# Altium footprint library Length Bar Comparator.PcbLib: 35 footprints (part 2 of 3)
Each footprint in its own frame and in the unit in brackets; x right, y up, seen from the top. Pads: shape width x height; smd on the part's side, far side on the other; paste and mask are expansions set on the pad; w line width, h text height; cw(c..) or ccw(c..) is an arc to the next point about the centre after c.
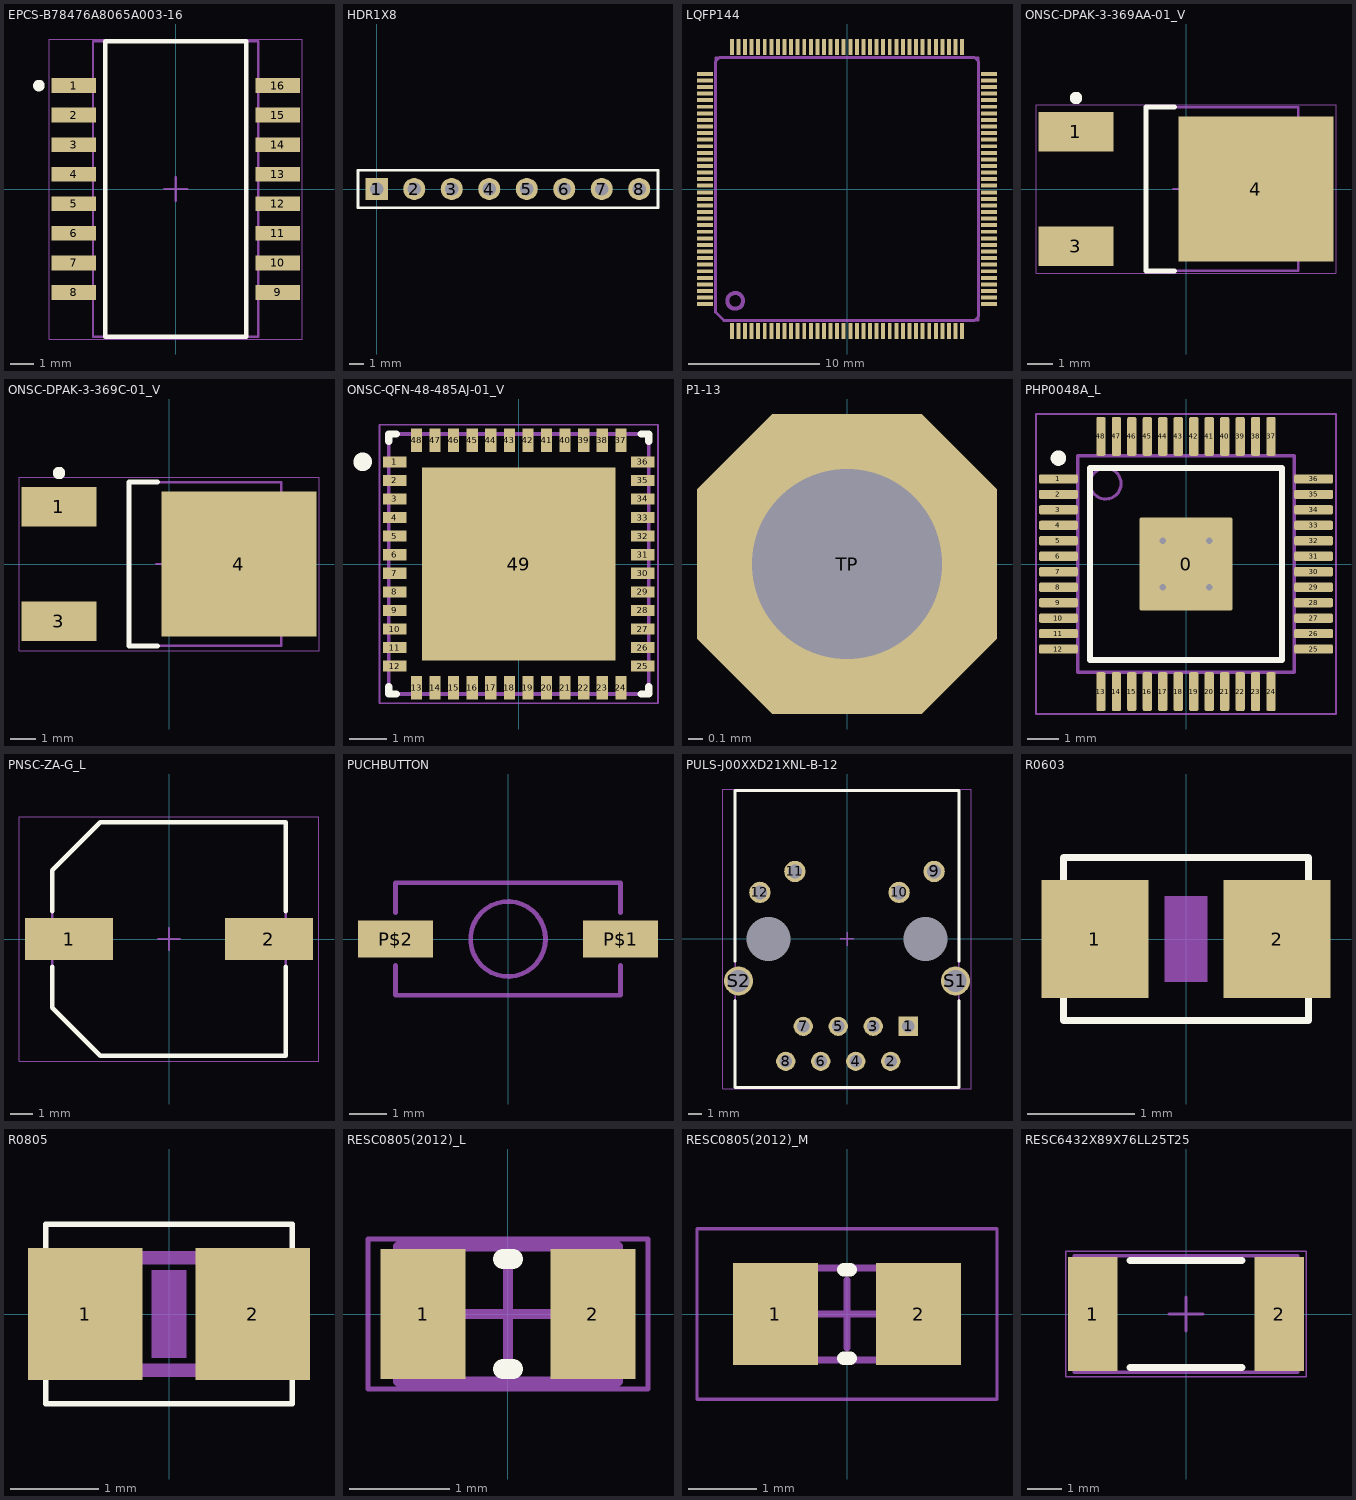
[diagram p1: the footprints below, top view; thin cyan lines are the x and y axes]

## EPCS-B78476A8065A003-16 [mm] "SMD, 16-Leads, Body 12.7x7.11mm, Pitch 1.27mm"
height 5.85
pads (16):
  rect 1.905x0.64 smd: 1(-4.383,4.445) 2(-4.383,3.175) 3(-4.383,1.905) 4(-4.383,0.635) 5(-4.383,-0.635) 6(-4.383,-1.905) 7(-4.383,-3.175) 8(-4.383,-4.445) 9(4.383,-4.445) 10(4.383,-3.175) 11(4.383,-1.905) 12(4.383,-0.635) 13(4.383,0.635) 14(4.383,1.905) 15(4.383,3.175) 16(4.383,4.445)
Top Overlay:
  circle w0.25: c-5.885,4.445 r0.125
  lines w0.2: -3.03,-6.35 3.03,-6.35 3.03,6.35 -3.03,6.35 -3.03,-6.35
Mechanical 13:
  lines w0.1: -3.555,-6.35 -3.555,6.35 3.555,6.35 3.555,-6.35 -3.555,-6.35
Mechanical 15:
  lines w0.05: -5.435,-6.45 5.435,-6.45 5.435,6.45 -5.435,6.45 -5.435,-6.45
  lines w0.1: -0.5,0 0.5,0 ; 0,-0.5 0,0.5
3D body: height 5.85, standoff 0.2, extent -3.555,-6.35 3.555,6.35

## HDR1X8 [mm] "Connector; Header; 8 Position"
pads (8):
  rect 1.5x1.5 hole 0.9: 1(0,0)
  round 1.5 hole 0.9: 2(2.54,0) 3(5.08,0) 4(7.62,0) 5(10.16,0) 6(12.7,0) 7(15.24,0) 8(17.78,0)
Top Overlay:
  lines w0.2: -1.27,-1.27 19.05,-1.27 19.05,1.27 -1.27,1.27 -1.27,-1.27

## LQFP144 [mm] "LQFP144"
pads (144):
  rect 0.3x1.2 smd: 1(-8.75,-10.8) 2(-8.25,-10.8) 3(-7.75,-10.8) 4(-7.25,-10.8) 5(-6.75,-10.8) 6(-6.25,-10.8) 7(-5.75,-10.8) 8(-5.25,-10.8) 9(-4.75,-10.8) 10(-4.25,-10.8) 11(-3.75,-10.8) 12(-3.25,-10.8) 13(-2.75,-10.8) 14(-2.25,-10.8) 15(-1.75,-10.8) 16(-1.25,-10.8) 17(-0.75,-10.8) 18(-0.25,-10.8) 19(0.25,-10.8) 20(0.75,-10.8) 21(1.25,-10.8) 22(1.75,-10.8) 23(2.25,-10.8) 24(2.75,-10.8) 25(3.25,-10.8) 26(3.75,-10.8) 27(4.25,-10.8) 28(4.75,-10.8) 29(5.25,-10.8) 30(5.75,-10.8) 31(6.25,-10.8) 32(6.75,-10.8) 33(7.25,-10.8) 34(7.75,-10.8) 35(8.25,-10.8) 36(8.75,-10.8) 73(8.75,10.8) 74(8.25,10.8) 75(7.75,10.8) 76(7.25,10.8) 77(6.75,10.8) 78(6.25,10.8) 79(5.75,10.8) 80(5.25,10.8) 81(4.75,10.8) 82(4.25,10.8) 83(3.75,10.8) 84(3.25,10.8) 85(2.75,10.8) 86(2.25,10.8) 87(1.75,10.8) 88(1.25,10.8) 89(0.75,10.8) 90(0.25,10.8) 91(-0.25,10.8) 92(-0.75,10.8) 93(-1.25,10.8) 94(-1.75,10.8) 95(-2.25,10.8) 96(-2.75,10.8) 97(-3.25,10.8) 98(-3.75,10.8) 99(-4.25,10.8) 100(-4.75,10.8) 101(-5.25,10.8) 102(-5.75,10.8) 103(-6.25,10.8) 104(-6.75,10.8) 105(-7.25,10.8) 106(-7.75,10.8) 107(-8.25,10.8) 108(-8.75,10.8)
  rect 1.2x0.3 smd: 37(10.8,-8.75) 38(10.8,-8.25) 39(10.8,-7.75) 40(10.8,-7.25) 41(10.8,-6.75) 42(10.8,-6.25) 43(10.8,-5.75) 44(10.8,-5.25) 45(10.8,-4.75) 46(10.8,-4.25) 47(10.8,-3.75) 48(10.8,-3.25) 49(10.8,-2.75) 50(10.8,-2.25) 51(10.8,-1.75) 52(10.8,-1.25) 53(10.8,-0.75) 54(10.8,-0.25) 55(10.8,0.25) 56(10.8,0.75) 57(10.8,1.25) 58(10.8,1.75) 59(10.8,2.25) 60(10.8,2.75) 61(10.8,3.25) 62(10.8,3.75) 63(10.8,4.25) 64(10.8,4.75) 65(10.8,5.25) 66(10.8,5.75) 67(10.8,6.25) 68(10.8,6.75) 69(10.8,7.25) 70(10.8,7.75) 71(10.8,8.25) 72(10.8,8.75) 109(-10.8,8.75) 110(-10.8,8.25) 111(-10.8,7.75) 112(-10.8,7.25) 113(-10.8,6.75) 114(-10.8,6.25) 115(-10.8,5.75) 116(-10.8,5.25) 117(-10.8,4.75) 118(-10.8,4.25) 119(-10.8,3.75) 120(-10.8,3.25) 121(-10.8,2.75) 122(-10.8,2.25) 123(-10.8,1.75) 124(-10.8,1.25) 125(-10.8,0.75) 126(-10.8,0.25) 127(-10.8,-0.25) 128(-10.8,-0.75) 129(-10.8,-1.25) 130(-10.8,-1.75) 131(-10.8,-2.25) 132(-10.8,-2.75) 133(-10.8,-3.25) 134(-10.8,-3.75) 135(-10.8,-4.25) 136(-10.8,-4.75) 137(-10.8,-5.25) 138(-10.8,-5.75) 139(-10.8,-6.25) 140(-10.8,-6.75) 141(-10.8,-7.25) 142(-10.8,-7.75) 143(-10.8,-8.25) 144(-10.8,-8.75)
Mechanical 2:
  circle w0.305: c-8.5,-8.5 r0.6
  lines w0.127: -10,-9 -10,-9.4 -9.4,-10 -9,-10 ; -10,9 -10,10 -9,10 ; 9,-10 10,-10 10,-9.2 ; 9,10 10,10 10,9
Mechanical 16:
  circle w0.305: c-8.5,-8.5 r0.6
  lines w0.203: -10,-9.365 -10,9.682 -9.682,10 9.682,10 10,9.682 10,-9.682 9.682,-10 -9.365,-10 -10,-9.365
3D body: height 3.05, standoff 0.51, extent -10.102,-10.102 10.102,10.102

## ONSC-DPAK-3-369AA-01_V [mm] "DPAK, 3-Leads, Body 6.54x6.095mm, Pitch 2.29mm"
height 2.47
pads (3):
  rect 3x1.6 smd: 1(-4.4,2.29) 3(-4.4,-2.29)
  rect 6.2x5.8 smd: 4(2.8,0)
Top Overlay:
  circle w0.25: c-4.4,3.64 r0.125
  lines w0.2: -0.453,-3.27 -1.6,-3.27 -1.6,3.27 -0.453,3.27
Mechanical 13:
  lines w0.1: -1.6,-3.27 -1.6,3.27 4.495,3.27 4.495,-3.27 -1.6,-3.27
Mechanical 15:
  lines w0.05: 5.99,-3.37 -6,-3.37 -6,3.37 5.99,3.37 ; 6,-3.37 6,3.37
  lines w0.1: -0.5,0 0.5,0 ; 0,-0.5 0,0.5
3D body: height 2.47, standoff 0, extent -1.6,-3.27 4.495,3.27

## ONSC-DPAK-3-369C-01_V [mm] "DPAK, 3-Leads, Body 6.54x6.095mm, Pitch 2.29mm"
height 2.38
pads (3):
  rect 3x1.6 smd: 1(-4.4,2.29) 3(-4.4,-2.29)
  rect 6.2x5.8 smd: 4(2.8,0)
Top Overlay:
  circle w0.25: c-4.4,3.64 r0.125
  lines w0.2: -0.453,-3.27 -1.6,-3.27 -1.6,3.27 -0.453,3.27
Mechanical 13:
  lines w0.1: -1.6,-3.27 -1.6,3.27 4.495,3.27 4.495,-3.27 -1.6,-3.27
Mechanical 15:
  lines w0.05: -6,-3.465 -6,3.465 6,3.465 6,-3.465 -6,-3.465
  lines w0.1: -0.5,0 0.5,0 ; 0,-0.5 0,0.5
3D body: height 2.38, standoff 0, extent -1.6,-3.27 4.495,3.27

## ONSC-QFN-48-485AJ-01_V [mm] "QFN, 48-Leads, Body 7x7mm, Pitch 0.5mm, Thermal Pad 5.2x5.2mm"
height 1
pads (49):
  rect 0.63x0.3 smd: 1(-3.335,2.75) 2(-3.335,2.25) 3(-3.335,1.75) 4(-3.335,1.25) 5(-3.335,0.75) 6(-3.335,0.25) 7(-3.335,-0.25) 8(-3.335,-0.75) 9(-3.335,-1.25) 10(-3.335,-1.75) 11(-3.335,-2.25) 12(-3.335,-2.75) 25(3.335,-2.75) 26(3.335,-2.25) 27(3.335,-1.75) 28(3.335,-1.25) 29(3.335,-0.75) 30(3.335,-0.25) 31(3.335,0.25) 32(3.335,0.75) 33(3.335,1.25) 34(3.335,1.75) 35(3.335,2.25) 36(3.335,2.75)
  rect 0.3x0.63 smd: 13(-2.75,-3.335) 14(-2.25,-3.335) 15(-1.75,-3.335) 16(-1.25,-3.335) 17(-0.75,-3.335) 18(-0.25,-3.335) 19(0.25,-3.335) 20(0.75,-3.335) 21(1.25,-3.335) 22(1.75,-3.335) 23(2.25,-3.335) 24(2.75,-3.335) 37(2.75,3.335) 38(2.25,3.335) 39(1.75,3.335) 40(1.25,3.335) 41(0.75,3.335) 42(0.25,3.335) 43(-0.25,3.335) 44(-0.75,3.335) 45(-1.25,3.335) 46(-1.75,3.335) 47(-2.25,3.335) 48(-2.75,3.335)
  rect 5.2x5.2 smd: 49(0,0)
Top Overlay:
  circle w0.25: c-4.2,2.75 r0.125
  lines w0.2: -3.5,-3.3 -3.5,-3.5 -3.3,-3.5 ; -3.5,3.3 -3.5,3.5 -3.3,3.5 ; 3.3,-3.5 3.5,-3.5 3.5,-3.3 ; 3.3,3.5 3.5,3.5 3.5,3.3
Mechanical 13:
  lines w0.1: -3.5,-3.5 -3.5,3.5 3.5,3.5 3.5,-3.5 -3.5,-3.5
Mechanical 15:
  lines w0.05: -3.75,-3.75 3.75,-3.75 3.75,3.75 -3.75,3.75 -3.75,-3.75
  lines w0.1: -0.5,0 0.5,0 ; 0,-0.5 0,0.5
3D body: height 1, standoff 0, extent -3.5,-3.5 3.5,3.5

## P1-13 [mil] "P1-13"
pads (1):
  oct 82.3x82.3 hole 52: TP(0,0)
Mechanical 16:
  circle w6: c0,0 r30
  rectangle: -13,-13 13,13

## PHP0048A_L [mm] "QFP, 48-Leads, Body 7x7mm, Pitch 0.5mm, Thermal Pad 3x3mm, IPC High Density"
height 1.2
pads (49):
  rrect3% 3x3 smd: 0(0,0)
  rrect33% 1.25x0.3 smd: 1(-4.125,2.75) 2(-4.125,2.25) 3(-4.125,1.75) 4(-4.125,1.25) 5(-4.125,0.75) 6(-4.125,0.25) 7(-4.125,-0.25) 8(-4.125,-0.75) 9(-4.125,-1.25) 10(-4.125,-1.75) 11(-4.125,-2.25) 12(-4.125,-2.75) 25(4.125,-2.75) 26(4.125,-2.25) 27(4.125,-1.75) 28(4.125,-1.25) 29(4.125,-0.75) 30(4.125,-0.25) 31(4.125,0.25) 32(4.125,0.75) 33(4.125,1.25) 34(4.125,1.75) 35(4.125,2.25) 36(4.125,2.75)
  rrect33% 0.3x1.25 smd: 13(-2.75,-4.125) 14(-2.25,-4.125) 15(-1.75,-4.125) 16(-1.25,-4.125) 17(-0.75,-4.125) 18(-0.25,-4.125) 19(0.25,-4.125) 20(0.75,-4.125) 21(1.25,-4.125) 22(1.75,-4.125) 23(2.25,-4.125) 24(2.75,-4.125) 37(2.75,4.125) 38(2.25,4.125) 39(1.75,4.125) 40(1.25,4.125) 41(0.75,4.125) 42(0.25,4.125) 43(-0.25,4.125) 44(-0.75,4.125) 45(-1.25,4.125) 46(-1.75,4.125) 47(-2.25,4.125) 48(-2.75,4.125)
via -0.75,-0.75 diameter 0.5 hole 0.2
via 0.75,-0.75 diameter 0.5 hole 0.2
via 0.75,0.75 diameter 0.5 hole 0.2
via -0.75,0.75 diameter 0.5 hole 0.2
Top Overlay:
  circle w0.25: c-4.125,3.425 r0.125
  lines w0.2: -3.1,-3.1 3.1,-3.1 3.1,3.1 -3.1,3.1 -3.1,-3.1
Mechanical 1:
  text ".Designator" at -1.524,-0.508 h1.02
Mechanical 13:
  circle w0.1: c-2.6,2.6 r0.5
  lines w0.1: -3.5,-3.5 3.5,-3.5 3.5,3.5 -3.5,3.5 -3.5,-3.5
Mechanical 15:
  lines w0.05: -4.85,-4.85 4.85,-4.85 4.85,4.85 -4.85,4.85 -4.85,-4.85
  lines w0.1: -0.5,0 0.5,0 ; 0,-0.5 0,0.5
3D body "PHP0048A.stp": height 1.2, standoff 0, extent -4.505,-4.505 4.506,4.506

## PNSC-ZA-G_L [mm] "Aluminum Electrolytic Capacitor, Body 10.30x10.30x10.50mm, IPC High Density"
height 10.5
pads (2):
  rect 3.95x1.9 smd: 1(-4.5,0) 2(4.5,0)
Top Overlay:
  lines w0.2: -5.25,-1.25 -5.25,-3.1 -3.1,-5.25 5.25,-5.25 5.25,-1.25 ; -5.25,1.25 -5.25,3.1 -3.1,5.25 5.25,5.25 5.25,1.25
Mechanical 13:
  lines w0.1: -5.25,-3.1 -3.1,-5.25 5.25,-5.25 5.25,5.25 -3.1,5.25 -5.25,3.1 -5.25,-3.1
Mechanical 15:
  lines w0.05: -6.75,-5.5 -6.75,5.5 6.75,5.5 6.75,-5.5 -6.75,-5.5
  lines w0.1: -0.5,0 0.5,0 ; 0,-0.5 0,0.5
3D body "CAPAE120103X105L.step": height 10.5, standoff 0, extent -6,-5.25 6,5.25

## PUCHBUTTON [mm] "PUCHBUTTON"
pads (2):
  rect 2x1 smd: P$1(3,0) P$2(-3,0)
Mechanical 2:
  circle w0.127: c0,0 r1
  lines w0.127: -3,-0.7 -3,-1.5 3,-1.5 3,-0.7 ; -3,0.7 -3,1.5 3,1.5 3,0.7

## PULS-J00XXD21XNL-B-12 [mm] "RJ45, 12-Leads, Body 16.26x21.59mm, Pitch 1.27mm"
height 17.13
pads (16):
  rect 1.4x1.4 hole 0.89: 1(4.445,-6.35)
  round 1.4 hole 0.89: 2(3.175,-8.89) 3(1.905,-6.35) 4(0.635,-8.89) 5(-0.635,-6.35) 6(-1.905,-8.89) 7(-3.175,-6.35) 8(-4.445,-8.89)
  round 1.55 hole 1.02: 9(6.325,4.9) 10(3.785,3.38) 11(-3.785,4.9) 12(-6.325,3.38)
  round 0 hole 3.2 unplated: MH1(5.715,0) MH2(-5.715,0)
  round 2.1 hole 1.6: S1(7.875,-3.05) S2(-7.875,-3.05)
Top Overlay:
  lines w0.2: -8.13,-4.477 -8.13,-10.8 8.13,-10.8 8.13,-4.477 ; -8.13,-1.623 -8.13,10.79 8.13,10.79 8.13,-1.623
Mechanical 13:
  lines w0.1: -8.13,-10.8 8.13,-10.8 8.13,10.79 -8.13,10.79 -8.13,-10.8
Mechanical 15:
  lines w0.05: -9.025,-10.9 9.025,-10.9 ; -9.025,-10.89 -9.025,10.89 9.025,10.89 9.025,-10.89
  lines w0.1: -0.5,0 0.5,0 ; 0,-0.5 0,0.5
3D body: height 17.13, standoff 0.99, extent -8.13,-10.795 8.13,10.795

## R0603 [mm] "R0603"
pads (2):
  rect 1x1.1 smd: 1(-0.85,0) 2(0.85,0)
Top Overlay:
  lines w0.064: -1.143,-0.762 1.143,-0.762 1.143,0.762 -1.143,0.762 -1.143,-0.762
Mechanical 8:
  rectangle: -0.2,-0.4 0.2,0.4

## R0805 [mm] "R0805"
pads (2):
  rect 1.3x1.5 smd: 1(-0.95,0) 2(0.95,0)
Top Overlay:
  lines w0.064: -1.397,-1.016 1.397,-1.016 1.397,1.016 -1.397,1.016 -1.397,-1.016
Mechanical 8:
  rectangle: -0.2,-0.5 0.2,0.5
Mechanical 16:
  rectangle: -1.067,-0.699 -0.417,0.702
  rectangle: 0.406,-0.699 1.056,0.702
  lines w0.152: -0.41,-0.635 0.41,-0.635 ; -0.41,0.635 0.41,0.635

## RESC0805(2012)_L [mm] "Chip Resistor, Body 2.0x1.3mm, IPC High Density"
height 0.7
pads (2):
  rect 0.85x1.3 smd: 1(-0.85,0) 2(0.85,0)
Top Overlay:
  lines w0.2: -0.05,-0.55 0.05,-0.55 ; -0.05,0.55 0.05,0.55
Mechanical 13:
  lines w0.1: -1.1,-0.675 -1.1,0.675 1.1,0.675 1.1,-0.675 -1.1,-0.675
Mechanical 15:
  lines w0.05: -1.4,-0.75 -1.4,0.75 1.4,0.75 1.4,-0.75 -1.4,-0.75
  lines w0.1: -0.5,0 0.5,0 ; 0,-0.5 0,0.5
3D body: height 0.7, standoff 0, extent -1.1,-0.675 -0.68,0.675
3D body: height 0.7, standoff 0, extent -0.68,-0.675 0.68,0.675
3D body: height 0.7, standoff 0, extent 0.68,-0.675 1.1,0.675

## RESC0805(2012)_M [mm] "Chip Resistor, Body 2.0x1.3mm, IPC Low Density"
height 0.7
pads (2):
  rect 1.25x1.5 smd: 1(-1.05,0) 2(1.05,0)
Top Overlay:
  lines w0.2: -0.05,-0.65 0.05,-0.65 ; -0.05,0.65 0.05,0.65
Mechanical 13:
  lines w0.1: -1.1,-0.675 -1.1,0.675 1.1,0.675 1.1,-0.675 -1.1,-0.675
Mechanical 15:
  lines w0.05: -2.2,-1.25 -2.2,1.25 2.2,1.25 2.2,-1.25 -2.2,-1.25
  lines w0.1: -0.5,0 0.5,0 ; 0,-0.5 0,0.5
3D body: height 0.7, standoff 0, extent -1.1,-0.675 -0.68,0.675
3D body: height 0.7, standoff 0, extent -0.68,-0.675 0.68,0.675
3D body: height 0.7, standoff 0, extent 0.68,-0.675 1.1,0.675

## RESC6432X89X76LL25T25 [mm] "Chip Resistor, 2-Leads, Body 6.6x3.43mm, IPC High Density"
height 0.89
pads (2):
  rect 1.45x3.35 smd: 1(-2.75,0) 2(2.75,0)
Top Overlay:
  lines w0.2: -1.65,-1.575 1.65,-1.575 ; -1.65,1.575 1.65,1.575
Mechanical 13:
  lines w0.1: -3.3,-1.715 -3.3,1.715 3.3,1.715 3.3,-1.715 -3.3,-1.715
Mechanical 15:
  lines w0.05: -3.55,-1.85 -3.55,1.85 3.55,1.85 3.55,-1.85 -3.55,-1.85
  lines w0.1: -0.5,0 0.5,0 ; 0,-0.5 0,0.5
3D body "DIOC6432X09L.step": height 0.89, standoff 0, extent -3.3,-1.715 3.3,1.715